# Altium schematic symbol library DC-DC.SchLib: 2 symbols
Pins are listed as number, name and electrical type; pins without a type are passive.

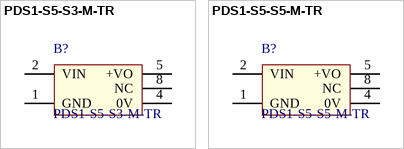
[diagram p0: symbols PDS1-S5-S3-M-TR to PDS1-S5-S5-M-TR]

## PDS1-S5-S3-M-TR
designator B?
Isol 5 to 3.3 V; Manufacturer_Name: CUI; Geometry.Height: 7mm; Mouser Part Number: 490-PDS1-S5-S3-M-TR; Mouser Price/Stock: https://www.digikey.co.uk/product-detail/en/cui-inc/PDS1-S5-S3-M-TR/102-3404-2-ND/5028218; Manufacturer_Part_Number: PDS1-S5-S3-M-TR; Datasheet Link: https://componentsearchengine.com/Datasheets/1/PDS1-S5-S3-M-TR.pdf; ComponentLink1Description: DS; ComponentLink1URL: https://ru.mouser.com/datasheet/2/670/pds1-m-1311700.pdf
footprint DEV_PDS1-M
pins: 1 GND, 2 VIN, 4 0V, 5 +VO, 8 NC

## PDS1-S5-S5-M-TR
designator B?
Isol 5 to 5 V; Manufacturer_Name: CUI; Geometry.Height: 7mm; Mouser Part Number: 490-PDS1-S5-S5-M-TR; Mouser Price/Stock: https://www.digikey.co.uk/product-detail/en/cui-inc/PDS1-S5-S3-M-TR/102-3404-2-ND/5028218; Manufacturer_Part_Number: PDS1-S5-S5-M-TR; Datasheet Link: https://componentsearchengine.com/Datasheets/1/PDS1-S5-S3-M-TR.pdf; ComponentLink1Description: DS; ComponentLink1URL: https://ru.mouser.com/datasheet/2/670/pds1-m-1311700.pdf
footprint DEV_PDS1-M
pins: 1 GND, 2 VIN, 4 0V, 5 +VO, 8 NC